# Altium schematic symbol library DIODE.SchLib: 23 symbols
Pins are listed as number, name and electrical type; pins without a type are passive.

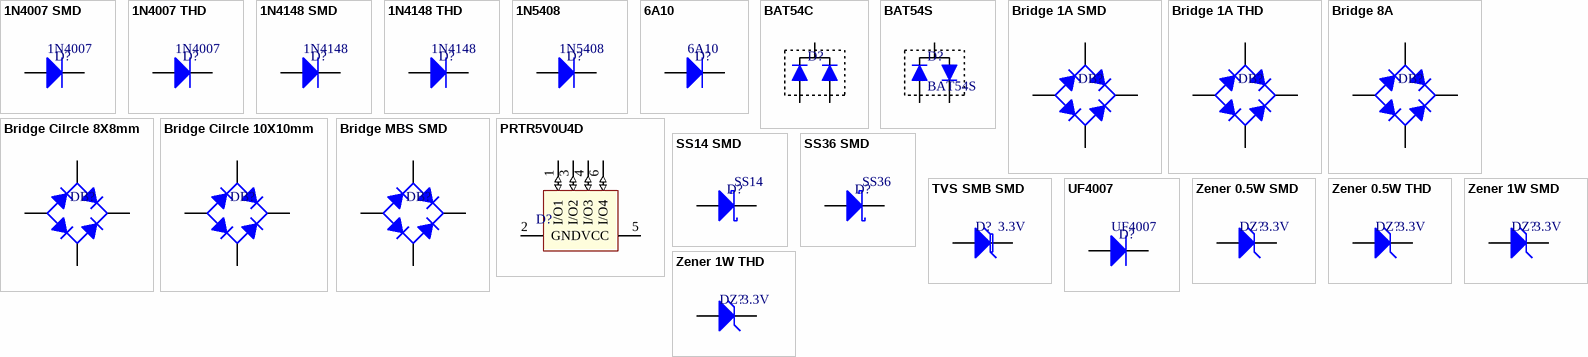
[diagram p0: symbols 1N4007 SMD to Zener 1W THD]

## 1N4007 SMD
designator D?  Parameter 1: 1N4007
1A Diode
footprint DO214AC SMA (Molded Diode, 2-Leads, Body 4.30x2.60mm, IPC Medium Density)
pins: 1 A, 2 K

## 1N4007 THD
designator D?  Parameter 1: 1N4007
1A Diode
footprint DO41 P7.5 (1N4007)
footprint DO41 P10 (1N4007)
footprint DO41 STAND P2.5 (1N4007)
pins: 1 A, 2 K

## 1N4148 SMD
designator D?  Parameter 1: 1N4148
Signal Diode
footprint SOD80 (SOD-80 MINI-MELF 3.6X1.6mm, LL-34, LL4148)
pins: 1 A, 2 K

## 1N4148 THD
designator D?  Parameter 1: 1N4148
Signal Diode
footprint DO35 P5 (1N4148)
footprint DO35 P7.5 (1N4148)
footprint DO35 STAND P2.5 (1N4148)
pins: 1 A, 2 K

## 1N5408
designator D?  Parameter 1: 1N5408
3A diode
footprint DO201 STAND P6.5 (1N5408 and ...)
footprint DO201 P18 (1N5408)
footprint DO201 P15 (1N5408)
pins: 1 A, 2 K

## 6A10
designator D?  Parameter 1: 6A10
6A diode
footprint R6 (6A10 and ...)
footprint R6 STAND (6A10 and ...)
pins: 1 A, 2 K

## BAT54C
designator D?  (value not drawn)
2 Schottky Diode
footprint SOT23-3
pins: 1 A, 2 K, 3 COM

## BAT54S
designator D?
2 Schottky Diode
footprint SOT23-3
pins: 1 A, 2 K, 3 COM

## Bridge 1A SMD
designator DB?
1A Bridge
footprint DBRG_DIPSMD (BRIDGE RECTIFIER, pitch: 5.08mm, 8X6mm, DB-S, DF005S)
pins: 1 K, 2 C, 3 A, 4 C

## Bridge 1A THD
designator DB?
1A Bridge
footprint DBRG_DIP (BRDIGE RECTIFIER, pitch: 5.08mm, 8X5mm)
pins: 1 K, 2 C, 3 A, 4 C

## Bridge 8A
designator DB?
8A Bridge
footprint DBRG_23X7 (BRDIGE RECTIFIER, KBU 810 pitch: 5.08mm, 23X7X19mm)
pins: 1 K, 2 C, 3 A, 4 C

## Bridge Cilrcle 8X8mm
designator DB?
1A Bridge
footprint DBRG_C8 (BRDIGE RECTIFIER, pitch: 4.7mm, 8X8mm)
pins: 1 K, 2 C, 3 A, 4 C

## Bridge Cilrcle 10X10mm
designator DB?
1A Bridge
footprint DBRG_C10 (BRDIGE RECTIFIER, WOB WOG, pitch: 5.08mm, 10X10mm)
pins: 1 K, 2 C, 3 A, 4 C

## Bridge MBS SMD
designator DB?
0.8A Bridge
footprint DBRG_MBS
pins: 1 K, 2 C, 3 A, 4 C

## PRTR5V0U4D
designator D?, comment TVS ARRAY  (value not drawn)
footprint SOT23-6
pins: 1 I/O1 (io), 2 GND (power), 3 I/O2 (io), 4 I/O3 (io), 5 VCC (power), 6 I/O4 (io)

## SS14 SMD
designator D?  Parameter 1: SS14
1A Schottky
footprint DO214AC SMA (Molded Diode, 2-Leads, Body 4.30x2.60mm, IPC Medium Density)
pins: 1 A, 2 K

## SS36 SMD
designator D?  Parameter 1: SS36
3A Schottky
footprint DO214AB SMC (Molded Diode, 2-Leads, Body 6.85x5.90mm, IPC Medium Density)
pins: 1 A, 2 K

## TVS SMB SMD
designator D?  value 3.3V
600W TVS
footprint DO214AA SMB (Molded Diode, 2-Leads, Body 4.31x3.62mm, IPC Medium Density)
pins: 1 A, 2 K

## UF4007
designator D?  Parameter 1: UF4007
1A High Frequency Diode
footprint DO41 P7.5 (1N4007)
footprint DO41 P10 (1N4007)
footprint DO41 STAND P2.5 (1N4007)
pins: 1 A, 2 K

## Zener 0.5W SMD
designator DZ?  value 3.3V
0.5W Zener
footprint SOD80 (SOD-80 MINI-MELF 3.6X1.6mm, LL-34, LL4148)
pins: 1 A, 2 K

## Zener 0.5W THD
designator DZ?  value 3.3V
0.5W Zener
footprint DO35 P7.5 (1N4148)
footprint DO35 P5 (1N4148)
footprint DO35 STAND P2.5 (1N4148)
pins: 1 A, 2 K

## Zener 1W SMD
designator DZ?  value 3.3V
1W Zener
footprint DO214AC SMA (Molded Diode, 2-Leads, Body 4.30x2.60mm, IPC Medium Density)
pins: 1 A, 2 K

## Zener 1W THD
designator DZ?  value 3.3V
1W Zener
footprint DO41 P7.5 (1N4007)
footprint DO41 P10 (1N4007)
footprint DO41 STAND P2.5 (1N4007)
pins: 1 A, 2 K